# Altium schematic symbol library D00173332_IP3734.SCHLIB: 65 symbols
Pins are listed as number, name and electrical type; pins without a type are passive.

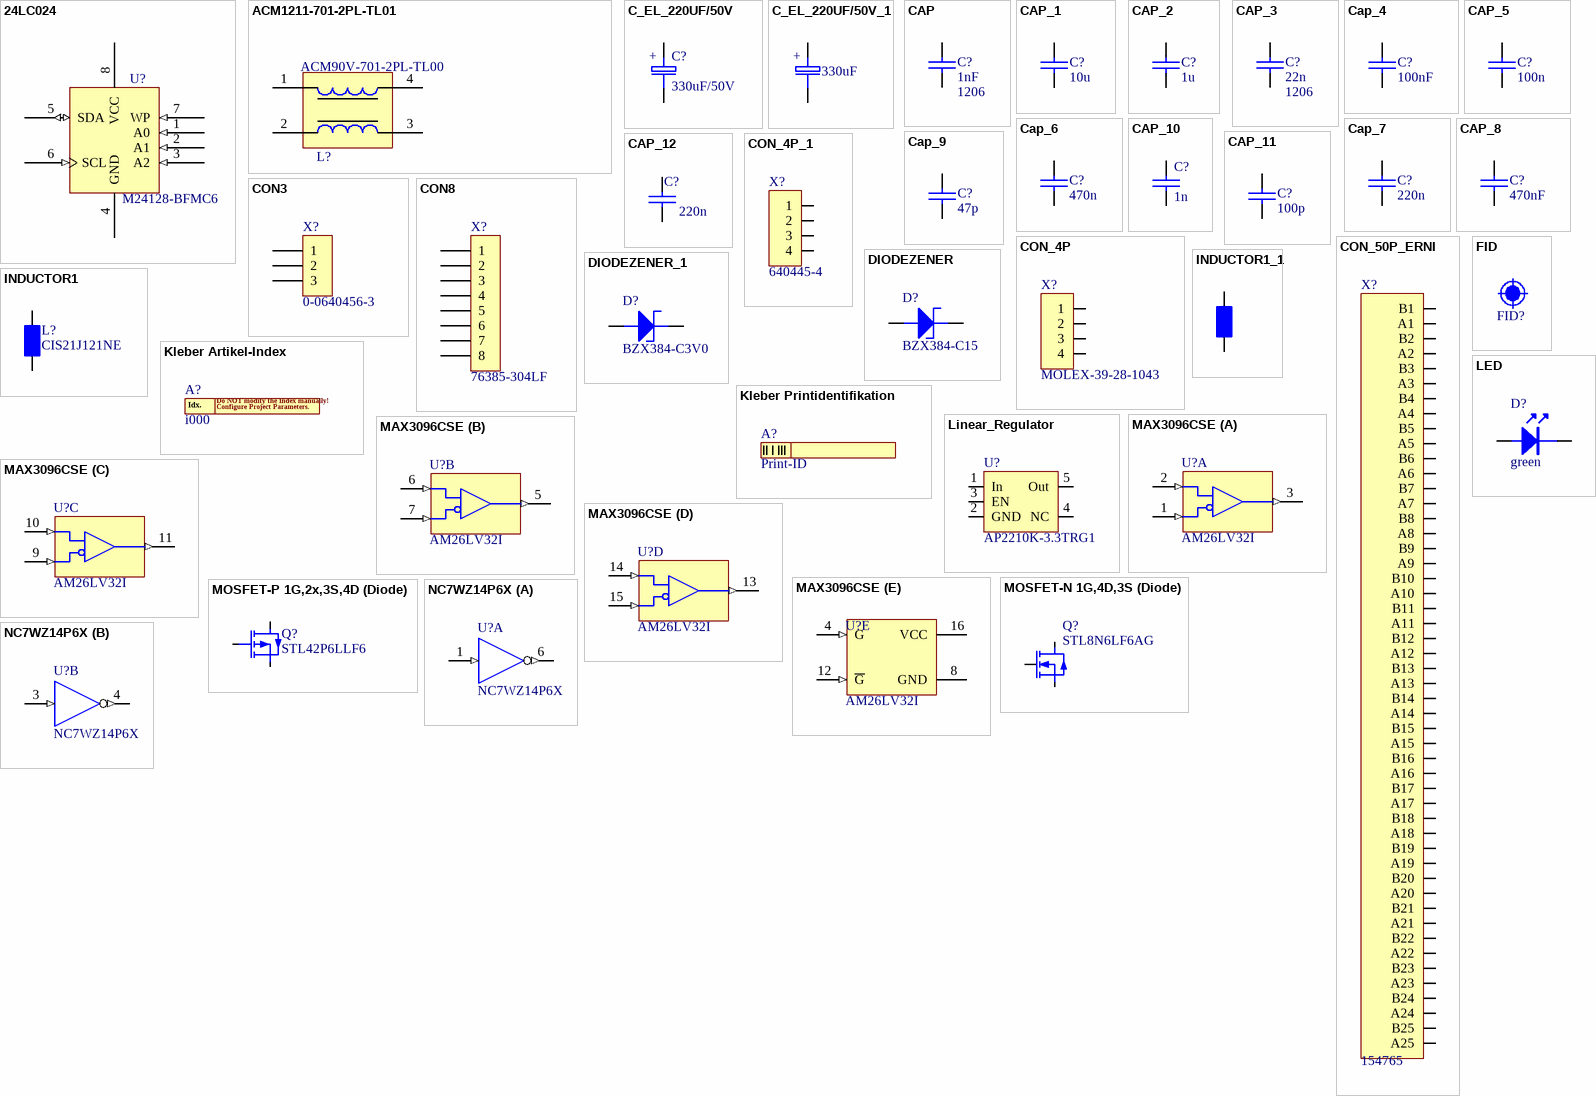
[diagram p0: symbols 24LC024 to NC7WZ14P6X]

## 24LC024
designator U?, comment M24128-BFMC6
I2C Eeprom 128kBit; Manufacturer: ST Microelectronics; 2ndSourcesReleased: AT24C128C-MAHM-E; FootprintBOM: 8-UFDFN
footprint SO-8
footprint DIP-8
footprint TSSOP-8
footprint DFN-8-2x3 (2x3mm)
pins: 1 A0 (in), 2 A1 (in), 3 A2 (in), 4 GND (power), 5 SDA (io), 6 SCL (in), 7 WP (in), 8 VCC (power)

## ACM1211-701-2PL-TL01
designator L?, comment ACM90V-701-2PL-TL00
Common Mode Chokes Dual 700Ohm 100MHz 5A 10mOhm DCR SMD T/R; Manufacturer: TDK; FootprintBOM: ACM90V
footprint ACM1211
footprint ACM90V
pins: 1, 2, 3, 4

## C_EL_220UF/50V
designator C?, comment 330uF/50V
EEVFK1H331Q; Manufacturer: Panasonic; Spannung: 50V; Strategic: 0; Bezeichnung: EEVFK1H331Q
footprint C_EL_SMD8.3
footprint SMD_Cap_Panasonic_F
footprint SMD_Cap_Panasonic_H13
pins: 1, 2
text: +

## C_EL_220UF/50V_1
designator C??, comment 330uF  (graphical)
EEVFK1H331Q; Manufacturer: Panasonic; Spannung: 50V; Strategic: 0; Bezeichnung: EEVFK1H331Q
footprint C_EL_SMD8.3
footprint SMD_Cap_Panasonic_F
footprint SMD_Cap_Panasonic_H13
pins: 1, 2
text: +

## CAP
designator C?, comment 1nF  FootprintBOM: 1206
Ceramic Capacitor >=50V X7R
footprint 1206_C (Chip Capasitor - 1206)
footprint 0805
footprint 1812
footprint 2220
footprint 0603
footprint 0603_C
pins: 1, 2

## CAP_1
designator C?, comment 10u
Ceramic Capacitor >=50V X7R; FootprintBOM: 1206
footprint 1206
footprint 0805
footprint 1812
footprint 2220
footprint 0603
footprint 1206_C
pins: 1, 2

## CAP_2
designator C?, comment 1u
Ceramic Capacitor >=25V; FootprintBOM: 0805
footprint 1206
footprint 0805_C (Chip Capasitor - 0805 Medium)
footprint 1812
footprint 2220
footprint 0603
footprint 1206_C
pins: 1, 2

## CAP_3
designator C?, comment 22n  FootprintBOM: 1206
Ceramic Capacitor >=50V X7R
footprint 1206_C (Chip Capasitor - 1206)
footprint 0805
footprint 1812
footprint 2220
footprint 0603
footprint 0603_C
pins: 1, 2

## Cap_4
designator C?, comment 100nF
Ceramic Capacitor >=50V X7R; FootprintBOM: 0805
footprint 1206
footprint 0805
footprint 1812
footprint 2220
footprint 0603
footprint 0603_C
footprint 0402_C (Chip Capacitor, Body 1.0x0.5mm, IPC High Density)
footprint 0805_C (Chip Capasitor - 0805 Medium)
pins: 1, 2

## CAP_5
designator C?, comment 100n
Ceramic Capacitor >=50V X7R; FootprintBOM: 0402
footprint 1206
footprint 0805
footprint 1812
footprint 2220
footprint 0603
footprint 0603_C
footprint 0402_C
pins: 1, 2

## Cap_6
designator C?, comment 470n
Ceramic Capacitor >=50V X7R; FootprintBOM: 0603
footprint 1206
footprint 0805
footprint 1812
footprint 2220
footprint 0603
footprint 0603_C
pins: 1, 2

## Cap_7
designator C?, comment 220n
Ceramic Capacitor >=50V X7R; FootprintBOM: 0603
footprint 1206
footprint 0805
footprint 1812
footprint 2220
footprint 0603
footprint 0603_C
pins: 1, 2

## CAP_8
designator C?, comment 470nF
Ceramic Capacitor >=25V; FootprintBOM: 0603
footprint 1206
footprint 0805
footprint 1812
footprint 2220
footprint 0603_C (Chip Inductor, Body 0.6x0.3mm, IPC High Density)
footprint 1206_C
pins: 1, 2

## Cap_9
designator C?, comment 47p
Ceramic Capacitor >=50V X7R; FootprintBOM: 0402
footprint 1206
footprint 0805
footprint 1812
footprint 2220
footprint 0603
footprint 0603_C
footprint 0402_C
pins: 1, 2

## CAP_10
designator C?, comment 1n
Ceramic Capacitor >=50V X7R; FootprintBOM: 0402
footprint 1206
footprint 0805
footprint 1812
footprint 2220
footprint 0603
footprint 0603_C
footprint 0402_c (Chip Capacitor, Body 1.0x0.5mm, IPC High Density)
pins: 1, 2

## CAP_11
designator C?, comment 100p
Ceramic Capacitor >=50V X7R; FootprintBOM: 0402
footprint 0603
footprint 0603_C
footprint 0402_c (Chip Capacitor, Body 1.0x0.5mm, IPC High Density)
pins: 1, 2

## CAP_12
designator C?, comment 220n
Ceramic Capacitor >=50V X7R; FootprintBOM: 0603
footprint 0805
footprint 0603
footprint 0603_R
footprint 0603_C
pins: 1, 2

## CON3
designator X?, comment 0-0640456-3
MTA-100 Plug Connector 180° 3p 2.54mm; Manufacturer: AMP/TYCO; MaxTemp: +105; MinTemp: -25; FootprintBOM: THT RM=2.54mm
footprint CON3
footprint MCV1.5/3-G-3.81
footprint CON_THT_3P_MTA-100_90deg
footprint MTA-100-3P-90_plug_in
footprint CON_THT_3P_MTA-100
pins: 1, 2, 3

## CON8
designator X?, comment 76385-304LF
Header 2x4p 180° RM=2.54mm; Manufacturer: Amphenol IIC; FootprintBOM: THT
footprint CON_THT_FCI_76_385-304-LF (Dubox 2x4p)
footprint CON_THT_FCI_76_383-304-LF (Dubox 2x4p)
pins: 1, 2, 3, 4, 5, 6, 7, 8

## CON_4P
designator X?, comment MOLEX-39-28-1043
Connector Mini Fit 4p 180°; Manufacturer: Molex; FootprintBOM: THT
footprint MOLEX-39-28-1043
footprint MOLEX-Minifit_4P_90_180deg
footprint MOLEX-39-30-1040
pins: 1, 2, 3, 4

## CON_4P_1
designator X?, comment 640445-4
MTA-156 Plug Connector 180° 4P 3.96mm
footprint CON_THT_4P_MTA-156
pins: 1, 2, 3, 4

## CON_50P_ERNI
designator X?, comment 154765
Connector SMC 2x25p 90° 1.27mm; Manufacturer: ERNI; MaxTemp: 125; MinTemp: -55; 2ndSource: 15 15 050 5601 333 / Harting; 3rdSource: *; Bemerkung: 90°; Distributor: *; FootprintBOM: SMD RM=1.27mm; Notes: *; Reference: *; Strategic: *
footprint CON_SMD_50P_ERNI_234199 (Erni 1.27mm 50p Stiftleiste 180° female)
footprint CON_SMD_50P_ERNI_154765 (Erni 1.27mm 50p Stiftleiste 90° male)
pins: A1, A2, A3, A4, A5, A6, A7, A8, A9, A10, A11, A12, A13, A14, A15, A16, A17, A18, A19, A20, A21, A22, A23, A24, A25, B1, B2, B3, B4, B5, B6, B7, B8, B9, B10, B11, B12, B13, B14, B15, B16, B17, B18, B19, B20, B21, B22, B23, B24, B25

## DIODEZENER
designator D?, comment BZX384-C15
ZenerDiode 15V; Manufacturer: NXP; MaxTemp: Tj +150; MinTemp: -55; FootprintBOM: SOD-323
footprint SOD-110
footprint CASE17
footprint DO-41
footprint SOD-323
pins: A, K

## DIODEZENER_1
designator D?, comment BZX384-C3V0
Zener Diode 3V; Manufacturer: NXP; MaxTemp: Tj +150; MinTemp: -55; FootprintBOM: SOD-323
footprint SOD-110
footprint CASE17
footprint DO-41
footprint SOD-323
pins: A, K

## FID
designator FID?, comment Fiducial  (value not drawn)  (no BOM)
FootprintBOM: Fiducal 1.1mm; Notes: Fiducial
footprint FID_1.1mm

## INDUCTOR1
designator L?, comment CIS21J121NE
Power Supression Bead 120Ohm bei 100MHz 5A; Manufacturer: Samsung; FootprintBOM: 0805
footprint 0805_R (Chip Resistor - 0805 Normal)
pins: 1, 2

## INDUCTOR1_1
designator L?, comment 28F0181-1SR-10  (value not drawn)  (graphical)
SMD Ferrit  115hm @ 100MHz 10A; Manufacturer: Laird; Distributor: Digikey; FootprintBOM: SMD
footprint Laird 28F0181 (SMD Ferrit)
pins: 1, 2

## Kleber Artikel-Index
designator A?, comment i000
Etiquette Article-Index; Notes: Positioning and design see assembly instructions
footprint PrintIndex
text: Do NOT modify the Index manually!; Idx.; Configure Project Parameters.

## Kleber Printidentifikation
designator A?, comment Print-ID
Etiquette PCB Identification; Notes: Positioning and design see assembly instructions
footprint PrintID

## LED
designator D?, comment color: green  (hidden comment: HSMG-C190)
SMD LED green; Manufacturer: AVAGO; Forward Voltage: 2.2V
footprint SMDLED
footprint 1206
footprint DIODE[0603]
footprint DIODE[0603]
footprint 0603_led
footprint LED_OSRAM_POINTLED
pins: A, K

## Linear_Regulator
designator U?, comment AP2210K-3.3TRG1
Linear Voltage Regulator; Manufacturer: Diodes Incorporated; 3rdSource: SPX3819M5-L-3-3/TR; 2ndSourcesReleased: LD2980CM33TR; FootprintBOM: SOT-23-5
footprint SOT23-5 (SOT23, 5-Leads, Body 2.9x1.6mm, Pitch 0.95mm, Lead Span 2.8mm, IPC Medium Density)
pins: 1 In, 2 GND, 3 EN, 4 NC, 5 Out

## MAX3096CSE
designator U?, comment AM26LV32I
3.3V 4fach RS422 Receiver +-15kV ESD-Protected; Manufacturer: TI; 2ndSourcesReleased: ISL32173EFBZ; FootprintBOM: SOIC-16
footprint SO-G16
footprint SOIC-16
part A pins: 1 B1 (in), 2 A1 (in), 3 Y1 (out)
part B pins: 5 Y2 (out), 6 A2 (in), 7 B2 (in)
part C pins: 9 B3 (in), 10 A3 (in), 11 Y3 (out)
part D pins: 13 Y4 (out), 14 A4 (in), 15 B4 (in)
part E pins: 4 G (in), 8 GND (power), 12 ~{G} (in), 16 VCC (power)

## MOSFET-N 1G,4D,3S (Diode)
designator Q?, comment STL8N6LF6AG
N-Channel Power MOSFET, 60V; 3rdSource: FDMS86183; MaxTemp: 175; MinTemp: -50; 2ndSourcesReleased: DMT6016LPS-13
footprint PQFN-8_Multi
pins: D, G, S

## MOSFET-P 1G,2x,3S,4D (Diode)
designator Q?, comment STL42P6LLF6
P-Channel Power MOSFET, -60V; 3rdSource: FDMS86163P; MaxTemp: 175; MinTemp: -50; Rdson: 26m; 2ndSourcesReleased: DMP6050SPS-13; Bemerkung: *; Distributor: *; FootprintBOM: *; Manufacturer: *; Notes: *; Reference: *; Strategic: *
footprint PQFN-8_Multi
pins: D, G, S

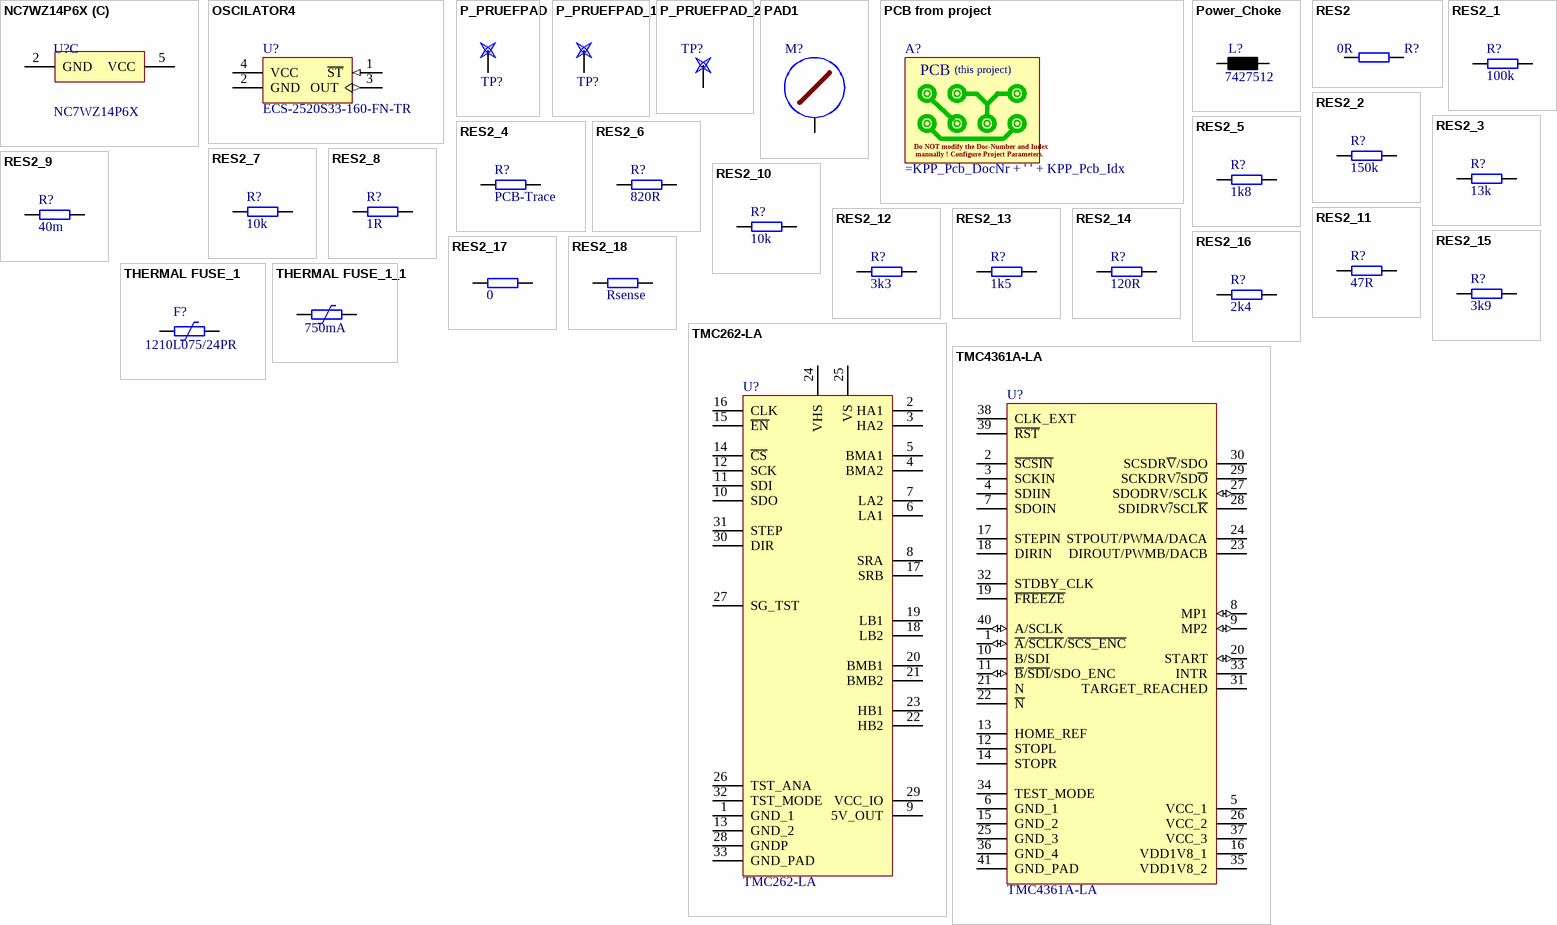
[diagram p1: symbols NC7WZ14P6X to TMC4361A-LA]

## NC7WZ14P6X
designator U?
Manufacturer: ON-Semi; MaxTemp: +85; MinTemp: -40; FootprintBOM: TSSOP-14
footprint SC70_6P
part A pins: 1 A (in), 6 Y (out)
part B pins: 3 A (in), 4 Y (out)
part C pins: 2 GND (power), 5 VCC (power)

## OSCILATOR4
designator U?, comment ECS-2520S33-160-FN-TR
MEMS Oscillator 16MHz 3,3V -40/+85°C; Manufacturer: ECS; FootprintBOM: SMD 2.5x2mm
footprint SMD_LPO_2.5x2mm (2.5x2mm  Oscillator)
pins: 1 ~{ST} (in), 2 GND (power), 3 OUT (out), 4 VCC (power)

## P_PRUEFPAD
designator TP?, comment Testpoint  (value not drawn)  (no BOM)
FootprintBOM: Testpoint
footprint PRUEFPAD_1mm
footprint PRUEFPAD_1.4mm
footprint PRUEFPAD_BOTTOM
footprint TP1.5MM_no_silk
footprint TP0.7MM
footprint TP1.5MM_no_silk
footprint TP1.5MM_no_silk
footprint TP1.5MM
pins: 1

## P_PRUEFPAD_1
designator TP?, comment Testpoint  (value not drawn)  (no BOM)
FootprintBOM: Testpoint
footprint PRUEFPAD
footprint PRUEFPAD_TOP
footprint PRUEFPAD_BOTTOM
footprint TP1MM
footprint TP1.5MM
footprint TP0.7MM
footprint TP1.5MM_no_silk
pins: 1

## P_PRUEFPAD_2
designator TP?, comment TESTPUNKT  (value not drawn)  (no BOM)
Testpoint; FootprintBOM: -
footprint PRUEFPAD
footprint PRUEFPAD_TOP
footprint PRUEFPAD_BOTTOM
footprint TP1MM
footprint TP1.5MM
footprint TP1.5MM_no_silk
pins: 1

## PAD1
designator M?, comment M4  (value not drawn)  (no BOM)
Bohrung mit PAD; Strategic: 0; Bezeichnung: M4
footprint M4/4,5/PAD9
pins: 1

## PCB from project
designator A?  (mechanical)
PCB not assembled
2 alternate drawings of the same symbol
text: PCB; (this project); Do NOT modify the Doc-Number and Index; manually ! Configure Project Parameters.

## Power_Choke
designator L?, comment 7427512
Ferrit Bead 580Ohm @ 100MHz / 5A; Manufacturer: Würth
footprint SMD_Inductor_5.2x5.2
footprint 7427512 (SMD EMI Suppression Ferrite Bead, body 8.5x4.65mm)
pins: 1, 2

## RES2
designator R?, comment 0R
Resistor 0.063W 1%; FootprintBOM: 0402
footprint 0603
footprint 0805
footprint 1206
footprint 0402_R (Chip Capacitor, Body 1.0x0.5mm, IPC High Density)
pins: 1, 2

## RES2_1
designator R?, comment 100k
Resistor 0.063W 1%; FootprintBOM: 0402
footprint 0603
footprint 0805
footprint 1206
footprint 0603
footprint 0603_R
footprint 0402_R (Chip Capacitor, Body 1.0x0.5mm, IPC High Density)
pins: 1, 2

## RES2_2
designator R?, comment 150k
Resistor 0.063W 1%; FootprintBOM: 0402
footprint 0603
footprint 0805
footprint 1206
footprint 0603_R
footprint 0402_R (Chip Capacitor, Body 1.0x0.5mm, IPC High Density)
pins: 1, 2

## RES2_3
designator R?, comment 13k
Resistor 0.25W 1%; FootprintBOM: 1206
footprint 0603
footprint 0805
footprint 1206_R (Chip Resistor, Body 3.4x1.8mm)
footprint 0603_R
pins: 1, 2

## RES2_4
designator R?, comment PCB-Trace  (net tie, no BOM)
Circuit Path; FootprintBOM: -
footprint 0603
footprint 0805
footprint 1206
footprint NET-CONNECT6
pins: 1, 2

## RES2_5
designator R?, comment 1k8
Resistor 0.063W 1%; FootprintBOM: 0402
footprint 0603
footprint 0805
footprint 1206
footprint 0603_R
footprint 0402_R (Chip Capacitor, Body 1.0x0.5mm, IPC High Density)
pins: 1, 2

## RES2_6
designator R?, comment 820R
Resistor 0.063W 1%; FootprintBOM: 0402
footprint 0603
footprint 0805
footprint 1206
footprint 0603_R (Chip Resistr - 0603)
footprint 0402_R (Chip Capacitor, Body 1.0x0.5mm, IPC High Density)
pins: 1, 2

## RES2_7
designator R?, comment 10k
Resistor 0.125W 1%; FootprintBOM: 0805
footprint 0603
footprint 1206_R
footprint 0805_R (Chip Resistor - 0805 Normal)
pins: 1, 2

## RES2_8
designator R?, comment 1R
Resistor 0.125W 1%; FootprintBOM: 0805
footprint 0603
footprint 1206_R
footprint 0805_R (Chip Resistor - 0805 Normal)
footprint 0603_R (Chip Resistr - 0603)
pins: 1, 2

## RES2_9
designator R?, comment value 40m  (hidden comment: CRA2512-FZ-R040ELF)
Resistor 40m / 3W 1%; Manufacturer: Bourns; MaxTemp: 170; MinTemp: -55; 2ndSourcesReleased: YAG2173DKR-ND; FootprintBOM: 2512; Bemerkung: CRA2512-FZ-R040ELF; max. Verlustleistung: 3W
footprint 2512_R (Chip Resistor - 2512)
footprint 0805
footprint 1206
pins: 1, 2

## RES2_10
designator R?, comment 10k
Resistor 0.063W 1%; FootprintBOM: 0402
footprint 0603
footprint 0805
footprint 1206
footprint 0402
footprint 0402_R
pins: 1, 2

## RES2_11
designator R?, comment 47R
Resistor 0.063W 1%; FootprintBOM: 0402
footprint 0603
footprint 0805
footprint 1206
footprint 0402
footprint 0402_R
pins: 1, 2

## RES2_12
designator R?, comment 3k3
Resistor 0.063W 1%; FootprintBOM: 0402
footprint 0603
footprint 0805
footprint 1206
footprint 0603_R
footprint 0402_R (Chip Capacitor, Body 1.0x0.5mm, IPC High Density)
pins: 1, 2

## RES2_13
designator R?, comment 1k5
Resistor 0.063W 1%; FootprintBOM: 0402
footprint 0603
footprint 0805
footprint 1206
footprint 0603_R
footprint 0402_R (Chip Capacitor, Body 1.0x0.5mm, IPC High Density)
pins: 1, 2

## RES2_14
designator R?, comment 120R
Resistor 0.1W 1%; FootprintBOM: 0603
footprint 0603
footprint 0805
footprint 1206
footprint 0603_R
footprint 0402_R (Chip Capacitor, Body 1.0x0.5mm, IPC High Density)
pins: 1, 2

## RES2_15
designator R?, comment 3k9
Resistor 0.25W 1%; FootprintBOM: 1206
footprint 0603
footprint 0805
footprint 1206_R (Chip Resistor, Body 3.4x1.8mm)
footprint 0603_R
pins: 1, 2

## RES2_16
designator R?, comment 2k4
Resistor 0.063W 1%; FootprintBOM: 0402
footprint 0603
footprint 0805
footprint 1206
footprint 0402
footprint 0402_R
pins: 1, 2

## RES2_17
designator R??, comment 0  (graphical)
Resistor 0.125W 1%; FootprintBOM: 0805
footprint 0603
footprint 1206_R
footprint 0805_R (Chip Resistor - 0805 Normal)
pins: 1, 2

## RES2_18
designator R??, comment Rsense  (graphical)
Circuit Path; FootprintBOM: -
footprint 0603
footprint 0805
footprint 1206
footprint NET-CONNECT6
pins: 1, 2

## THERMAL FUSE_1
designator F?, comment 1210L075/24PR
Polyfuse 750mA; Manufacturer: Littlefuse; MaxTemp: +85; MinTemp: -40; FootprintBOM: 1210
footprint 1210_L (Chip Resistor - 1210)
footprint 1812
pins: 1, 2

## THERMAL FUSE_1_1
designator F??, comment 750mA  (graphical)
Polyfuse 750mA; Manufacturer: Littlefuse; MaxTemp: +85; MinTemp: -40; FootprintBOM: 1210
footprint 1210_L (Chip Resistor - 1210)
footprint 1812
pins: 1, 2

## TMC262-LA
designator U?
Energy saving high resolution microstepping two phase stepper driver with Step/Dir, SPI, up to 60V, QFN32(5x5); Manufacturer: TRINAMIC; Geometry.Height: 0,9mm; Ordercode - Distri#1: 1460-1044-ND; Ordercode - Distri#2: 1858307; Datasheet: http://www.trinamic.com/_scripts/download.php?file=_articles%2Fproducts%2Fintegrated-circuits%2Ftmc262%2F_datasheet%2FTMC262_datasheet.pdf; Distributor#1: Digikey; Distributor#2: Farnell; Ordercode - Manu#1: TMC262-LA; Value: TMC262-LA
footprint TMC_QFN32_0.5_5.0X5.0
pins: 1 GND_1, 2 HA1, 3 HA2, 4 BMA2, 5 BMA1, 6 LA1, 7 LA2, 8 SRA, 9 5V_OUT (power), 10 SDO, 11 SDI, 12 SCK, 13 GND_2, 14 ~{CS}, 15 ~{EN}, 16 CLK, 17 SRB, 18 LB2, 19 LB1, 20 BMB1, 21 BMB2, 22 HB2, 23 HB1, 24 VHS (power), 25 VS (power), 26 TST_ANA, 27 SG_TST, 28 GNDP, 29 VCC_IO (power), 30 DIR, 31 STEP, 32 TST_MODE, 33 GND_PAD

## TMC4361A-LA
designator U?
S-ramp motion controller for stepper motors with high velocities. With SPI and Step/Dir; QFN40(5x5); Manufacturer: TRINAMIC; Geometry.Height: 0.9mm; Datasheet: *; Distributor#1: *; Distributor#2: *; Ordercode - Distri#1: *; Ordercode - Distri#2: *; Ordercode - Manu#1: TMC4361A-LA; Value: TMC4361A-LA
footprint TMC_QFN40_0.5_6.0X6.0
pins: 1 ~{A}/~{SCLK}/~{SCS_ENC} (io), 2 ~{SCSIN}, 3 SCKIN, 4 SDIIN, 5 VCC_1 (power), 6 GND_1, 7 SDOIN, 8 MP1 (io), 9 MP2 (io), 10 B/SDI, 11 ~{B}/~{SDI}/SDO_ENC (io), 12 STOPL, 13 HOME_REF, 14 STOPR, 15 GND_2, 16 VDD1V8_1 (power), 17 STEPIN, 18 DIRIN, 19 ~{FREEZE}, 20 START (io), 21 N, 22 ~{N}, 23 DIROUT/PWMB/DACB, 24 STPOUT/PWMA/DACA, 25 GND_3, 26 VCC_2 (power), 27 SDODRV/SCLK (io), 28 SDIDRV~{/}SCL~{K}, 29 SCKDRV~{/}SD~{O}, 30 SCSDR~{V}/SDO, 31 TARGET_REACHED, 32 STDBY_CLK, 33 INTR, 34 TEST_MODE, 35 VDD1V8_2 (power), 36 GND_4, 37 VCC_3 (power), 38 CLK_EXT, 39 ~{RST}, 40 A/SCLK (io), 41 GND_PAD